# EAGLE library part HCPL0611 (library HCPL0611)
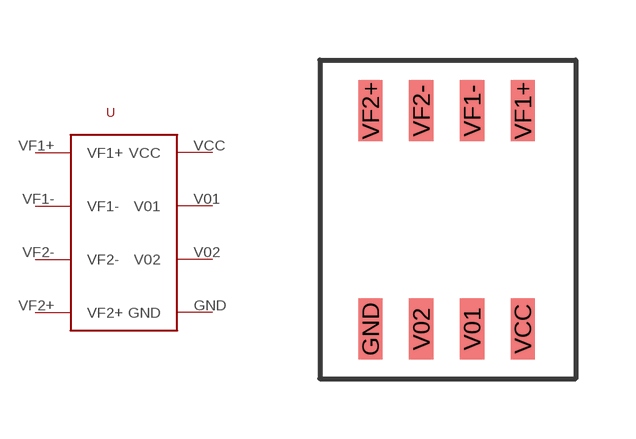
[diagram p0: symbol with the pads of HCPL0611; footprint HCPL0611]

Designator prefix -

## HCPL0611  [HCPL0611]
GND  GND
V01  V01
V02  V02
VCC  VCC
VF1+  VF1+
VF1-  VF1-
VF2+  VF2+
VF2-  VF2-

## Footprint HCPL0611 (pad centres in mm)
smd 0.61 x 1.524: GND 0,-5.461; V01 2.54,-5.461; V02 1.27,-5.461; VCC 3.81,-5.461; VF1+ 3.81,0; VF1- 2.54,0; VF2+ 0,0; VF2- 1.27,0